# Altium footprint library Molex FPC-FFC.PcbLib: 2 footprints
Each footprint in its own frame and in the unit in brackets; x right, y up, seen from the top. Pads: shape width x height; smd on the part's side, far side on the other; paste and mask are expansions set on the pad; w line width, h text height; cw(c..) or ccw(c..) is an arc to the next point about the centre after c.
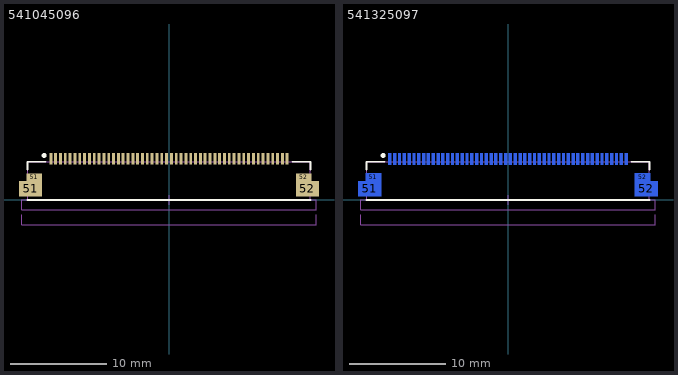
[diagram p0: the footprints below, top view; thin cyan lines are the x and y axes]

## 541045096 [mm] "Connector; FPC/FFC, SM, 50 Position, Right Angle, Pitch 0.50mm, Body 30.5x5.0mm (LxW), Top Contacts"
height 2
pads (54):
  rect 0.3x1.2 smd: 1(-12.25,4.25) 2(-11.75,4.25) 3(-11.25,4.25) 4(-10.75,4.25) 5(-10.25,4.25) 6(-9.75,4.25) 7(-9.25,4.25) 8(-8.75,4.25) 9(-8.25,4.25) 10(-7.75,4.25) 11(-7.25,4.25) 12(-6.75,4.25) 13(-6.25,4.25) 14(-5.75,4.25) 15(-5.25,4.25) 16(-4.75,4.25) 17(-4.25,4.25) 18(-3.75,4.25) 19(-3.25,4.25) 20(-2.75,4.25) 21(-2.25,4.25) 22(-1.75,4.25) 23(-1.25,4.25) 24(-0.75,4.25) 25(-0.25,4.25) 26(0.25,4.25) 27(0.75,4.25) 28(1.25,4.25) 29(1.75,4.25) 30(2.25,4.25) 31(2.75,4.25) 32(3.25,4.25) 33(3.75,4.25) 34(4.25,4.25) 35(4.75,4.25) 36(5.25,4.25) 37(5.75,4.25) 38(6.25,4.25) 39(6.75,4.25) 40(7.25,4.25) 41(7.75,4.25) 42(8.25,4.25) 43(8.75,4.25) 44(9.25,4.25) 45(9.75,4.25) 46(10.25,4.25) 47(10.75,4.25) 48(11.25,4.25) 49(11.75,4.25) 50(12.25,4.25)
  rect 2.4x1.6 smd: 51(-14.35,1.15) 52(14.35,1.15)
  rect 1.6x0.8 smd: 51(-13.95,2.35) 52(13.95,2.35)
Top Overlay:
  circle w0.25: c-12.95,4.6 r0.125
  lines w0.2: -14.65,0 14.65,0 ; -14.65,3.15 -14.65,3.95 -12.8,3.95 ; 12.8,3.95 14.65,3.95 14.65,3.15
Mechanical 13:
  lines w0.1: -15.25,-1.55 -15.25,-2.6 15.25,-2.6 15.25,-1.55 ; -15.25,-1.05 -15.25,0 15.25,0 15.25,-1.05 -15.25,-1.05 ; -14.65,0 14.65,0 14.65,3.95 -14.65,3.95 -14.65,0
Mechanical 15:
  lines w0.1: -0.5,0 0.5,0 ; 0,-0.5 0,0.5
3D body: height 2, standoff 0, extent -15.249,-1.049 15.249,-0.001
3D body: height 2, standoff 0, extent -14.649,0.001 14.649,3.949

## 541325097 [mm] "Connector; FPC/FFC, SM, 50 Position, Right Angle, Pitch 0.50mm, Body 30.5x5.0mm (LxW), Bottom Contacts"
pads (54):
  rect 0.3x1.2 smd far side: 1(-12.25,4.25) 2(-11.75,4.25) 3(-11.25,4.25) 4(-10.75,4.25) 5(-10.25,4.25) 6(-9.75,4.25) 7(-9.25,4.25) 8(-8.75,4.25) 9(-8.25,4.25) 10(-7.75,4.25) 11(-7.25,4.25) 12(-6.75,4.25) 13(-6.25,4.25) 14(-5.75,4.25) 15(-5.25,4.25) 16(-4.75,4.25) 17(-4.25,4.25) 18(-3.75,4.25) 19(-3.25,4.25) 20(-2.75,4.25) 21(-2.25,4.25) 22(-1.75,4.25) 23(-1.25,4.25) 24(-0.75,4.25) 25(-0.25,4.25) 26(0.25,4.25) 27(0.75,4.25) 28(1.25,4.25) 29(1.75,4.25) 30(2.25,4.25) 31(2.75,4.25) 32(3.25,4.25) 33(3.75,4.25) 34(4.25,4.25) 35(4.75,4.25) 36(5.25,4.25) 37(5.75,4.25) 38(6.25,4.25) 39(6.75,4.25) 40(7.25,4.25) 41(7.75,4.25) 42(8.25,4.25) 43(8.75,4.25) 44(9.25,4.25) 45(9.75,4.25) 46(10.25,4.25) 47(10.75,4.25) 48(11.25,4.25) 49(11.75,4.25) 50(12.25,4.25)
  rect 2.4x1.6 smd far side: 51(-14.35,1.15) 52(14.35,1.15)
  rect 1.6x0.8 smd far side: 51(-13.95,2.35) 52(13.95,2.35)
Top Overlay:
  circle w0.25: c-12.95,4.6 r0.125
  lines w0.2: -14.65,0 14.65,0 ; -14.65,3.15 -14.65,3.95 -12.8,3.95 ; 12.8,3.95 14.65,3.95 14.65,3.15
Mechanical 13:
  lines w0.1: -15.25,-1.55 -15.25,-2.6 15.25,-2.6 15.25,-1.55 ; -15.25,-1.05 15.25,-1.05 15.25,0 -15.25,0 -15.25,-1.05 ; -14.65,0 -14.65,3.95 14.65,3.95 14.65,0 -14.65,0
Mechanical 15:
  lines w0.1: -0.5,0 0.5,0 ; 0,-0.5 0,0.5
3D body: height 2, standoff 0, extent -14.649,0.001 14.649,3.949
3D body: height 2, standoff 0, extent -15.249,-1.049 15.249,-0.001